# Altium schematic symbol library L4.SchLib: 1 symbol
Pins are listed as number, name and electrical type; pins without a type are passive.

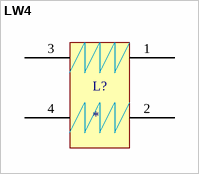
[diagram p0: symbol LW4]

## LW4
designator L?
footprint 30
pins: 1, 2, 3, 4